# Altium schematic symbol library IMU.SchLib: 1 symbol
Pins are listed as number, name and electrical type; pins without a type are passive.

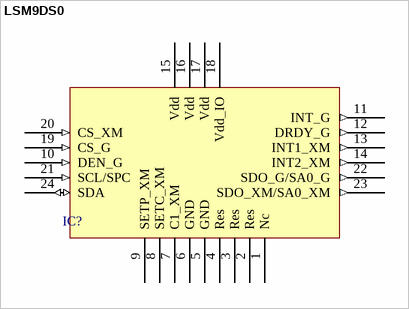
[diagram p0: symbol LSM9DS0]

## LSM9DS0
designator IC?
iNEMO inertial module:3D accelerometer, 3D gyroscope, 3D magnetometer
footprint LGA24 (LGA, 24-Leads, Body 4x4mm, Pitch 0.5mm, IPC Normal Density)
pins: 1 Nc, 2 Res (power), 3 Res (power), 4 Res (power), 5 GND (power), 6 GND (power), 7 C1_XM, 8 SETC_XM, 9 SETP_XM, 10 DEN_G (in), 11 INT_G (out), 12 DRDY_G (out), 13 INT1_XM (out), 14 INT2_XM (out), 15 Vdd (power), 16 Vdd (power), 17 Vdd (power), 18 Vdd_IO (power), 19 CS_G (in), 20 CS_XM (in), 21 SCL/SPC (in), 22 SDO_G/SA0_G (out), 23 SDO_XM/SA0_XM (out), 24 SDA (io)